# EAGLE library part MAX-M8Q (library GPS)
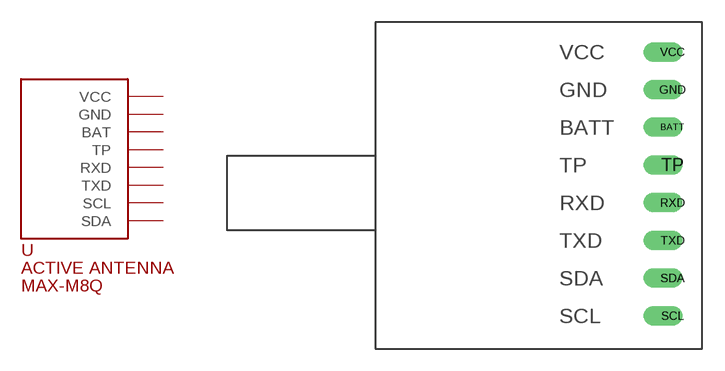
[diagram p0: symbol with the pads of DIP8; footprint DIP8]

Designator prefix -

## MAX-M8QDIP8  [DIP8]
BATT  BAT
GND  GND
RXD  RXD
SCL  SCL
SDA  SDA
TP  TP
TXD  TXD
VCC  VCC

## Footprint DIP8 (pad centres in mm)
drill 0.8 offset: BATT 0,-5.08; GND 0,-2.54; RXD 0,-10.16; SCL 0,-17.78; SDA 0,-15.24; TP 0,-7.62; TXD 0,-12.7; VCC 0,0